# Altium schematic symbol library SHT21.SchLib: 1 symbol
Pins are listed as number, name and electrical type; pins without a type are passive.

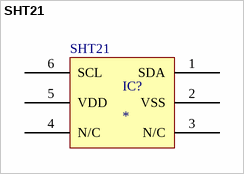
[diagram p0: symbol SHT21]

## SHT21
designator IC?
footprint PCBComponent_1
pins: 1 SDA, 2 VSS, 3 N/C, 4 N/C, 5 VDD, 6 SCL